# Altium footprint library SM_SW_1571407-2.PcbLib: 1 footprints
Each footprint in its own frame and in the unit in brackets; x right, y up, seen from the top. Pads: shape width x height; smd on the part's side, far side on the other; paste and mask are expansions set on the pad; w line width, h text height; cw(c..) or ccw(c..) is an arc to the next point about the centre after c.
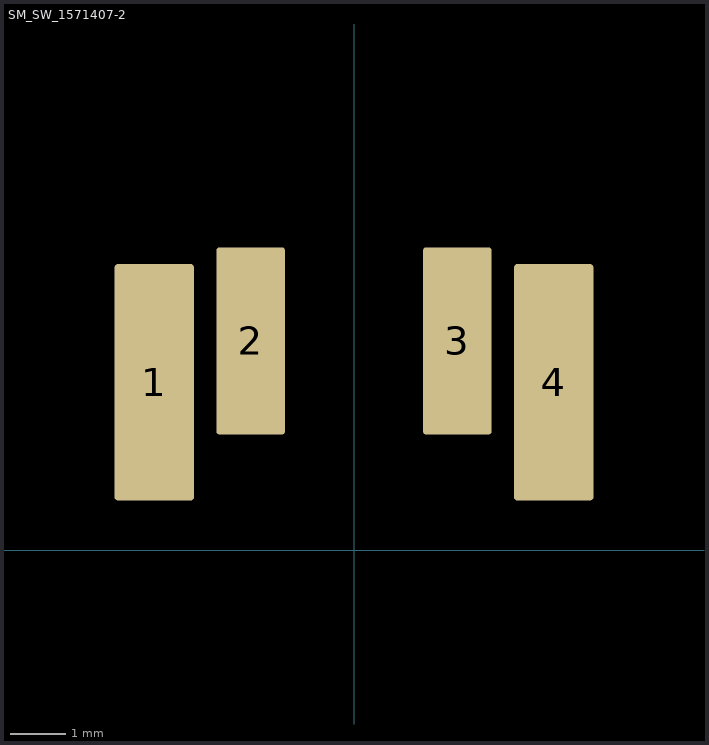
[diagram p0: the footprint, top view; thin cyan lines are the x and y axes]

## SM_SW_1571407-2 [mm]
height 6.4
pads (4):
  rrect10% 1.45x4.3 smd: 1(-3.625,3.05) 4(3.625,3.05)
  rrect10% 1.25x3.4 smd: 2(-1.875,3.8) 3(1.875,3.8)
3D body "c-1571407-2-h1-3d.stp": height 6.4, standoff 0, extent -3.82,-0.965 3.82,5.035